# Altium integrated library Linear Technology PMIC-Switching Reg LTC1174-LTC3901.IntLib: 2647 symbols (part 247 of 310)
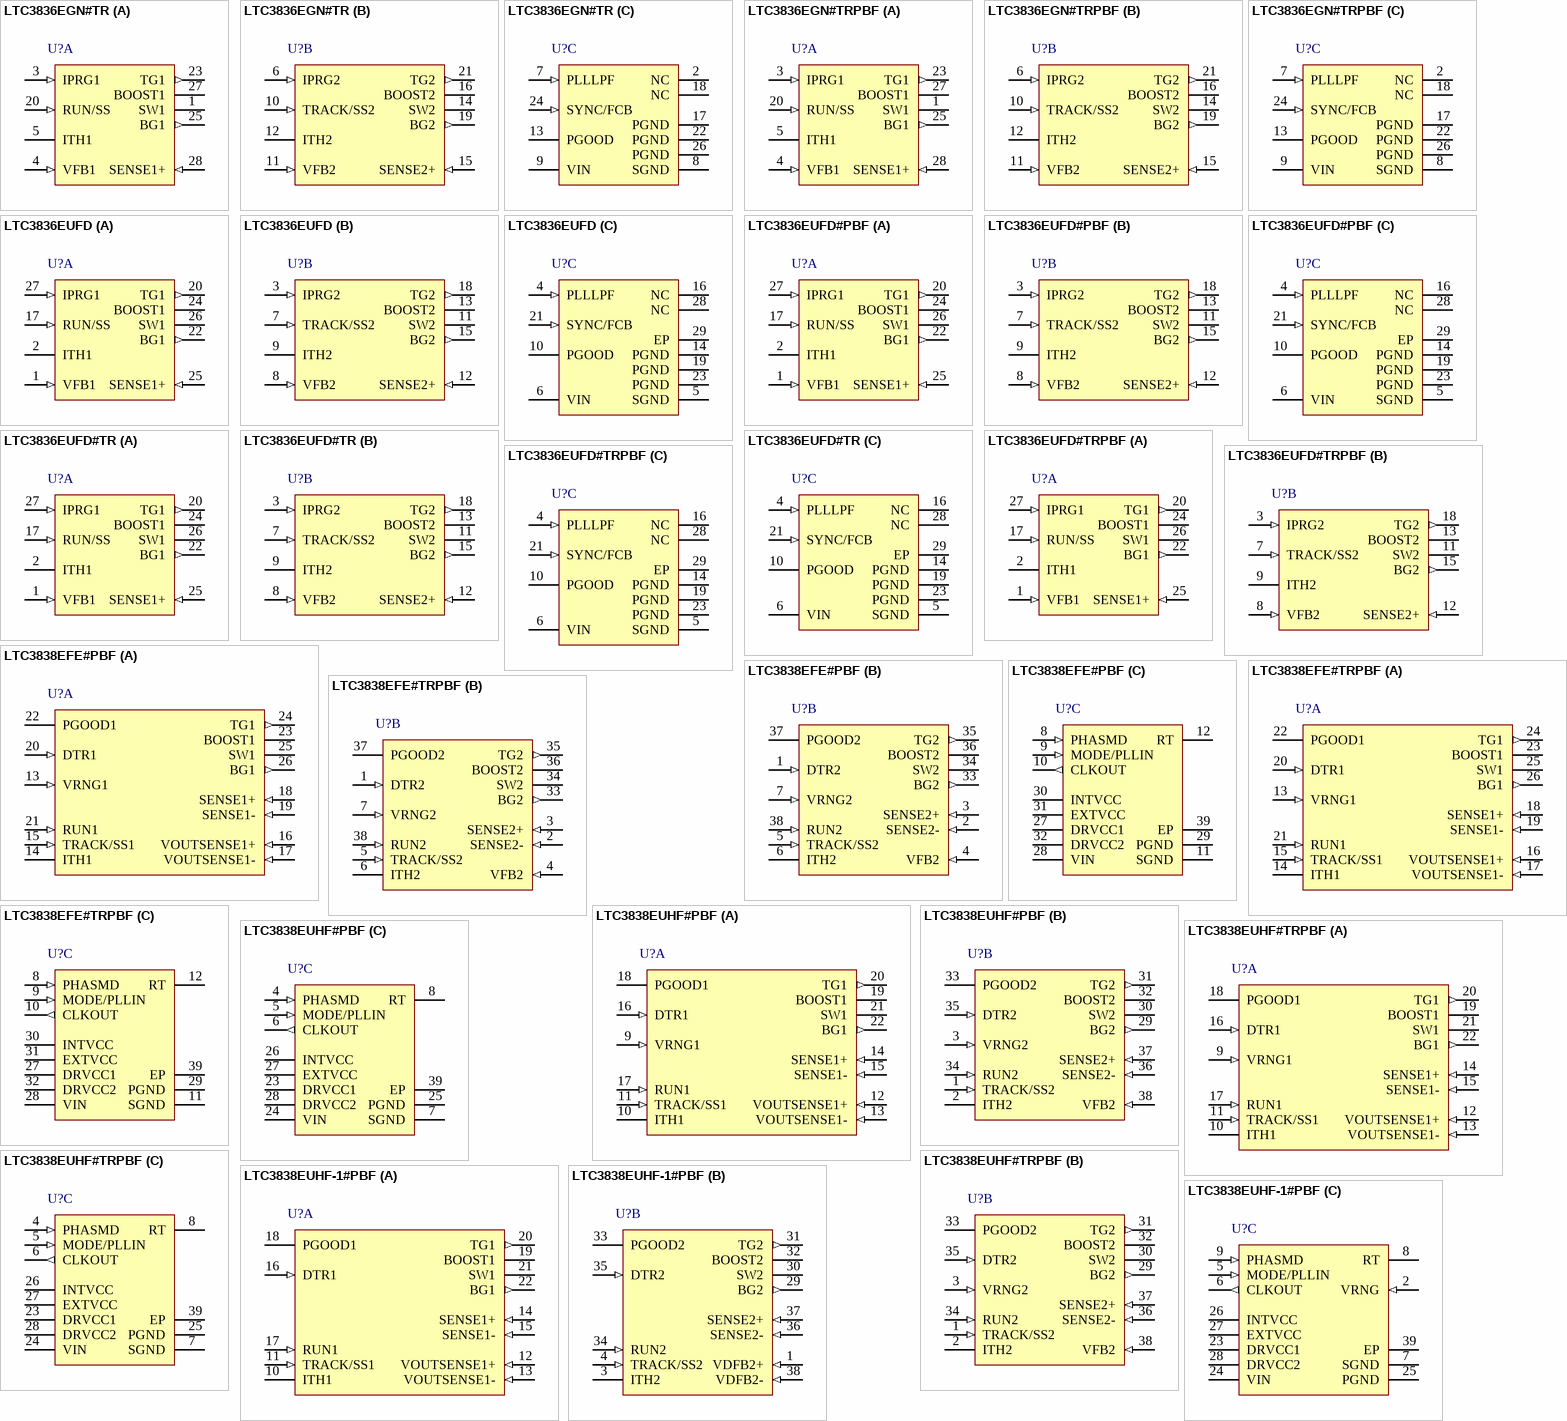
[diagram p262: symbols LTC3836EGN#TR to LTC3838EUHF-1#PBF]

## LTC3836EGN#TR
designator U?
Dual 2-Phase Synchronous Controller, 2.75 to 4.5 V Vin, 28-pin SOP (GN-28), -40 to 85 degC, Tape and Reel; Manufacturer: Linear Technology; PartNumber: LTC3836EGN#TR; Number of Outputs: 2; PackageReference: GN-28; PackageDescription: 28-Pin Plastic SSOP, Body 9.9 x 3.9 mm, Pitch 0.635 mm; RoHS: FALSE
footprint LT-GN-28_N (SOP, 28-Leads, Body 9.98x3.98mm, Pitch 0.635mm, IPC Medium Density)
footprint LT-GN-28_L (SOP, 28-Leads, Body 9.98x3.98mm, Pitch 0.635mm, IPC High Density)
footprint LT-GN-28_M (SOP, 28-Leads, Body 9.98x3.98mm, Pitch 0.635mm, IPC Low Density)
part A pins: 1 SW1 "Switch Node Connection to Inductor and External MOSFETs. Also the negative input to differential peak current comparator and an input to the reverse current comparator. Normally connected to the source of the main MOSFET, (See Datasheet)", 3 IPRG1 (in) "Three-State Pins to Select Maximum Peak Sense Voltage Threshold. These pins select the maximum allowed voltage drop between the SENSE+ and SW pins (i.e., the maximum allowed drop across the external main MOSFET) for each (See Datasheet)", 4 VFB1 (in) "Feedback Pins. Receives the remotely sensed feedback voltage for its controller from an external resistor divider across the output.", 5 ITH1 "Current Threshold and Error Amplifier Compensation Point. Nominal operating range on these pins is from 0.7V to 2V. The voltage on these pins determines the threshold of the main current comparator.", 20 RUN/SS (in) "Run Control Input and Optional External Soft-Start Input. Forcing this pin below 0.65V shuts down the chip (both channels). Driving this pin to VIN or releasing this pin enables the chip, using the chip’s interna(See Datasheet)", 23 TG1 (out) "Top Gate Drive Output. These pins drive the gates of the external topside MOSFETs. These pins have an output swing from PGND to BOOST.", 25 BG1 (out) "Bottom Gate Drive Output. These pins drive the gates of the external synchronous MOSFETs. These pins have an output swing from PGND to BOOST.", 27 BOOST1 "Positive Supply Pin for the Gate Driver Circuitry. A bootstrapped capacitor, charged with an external Schottky diode and a boost voltage source, is connected between the BOOST and SW pins. Voltage swing at the BOOST pins is (See Datasheet)", 28 SENSE1+ (in) "Positive Input to Differential Current Comparator. Also powers the gate drivers. Normally connected to the drain of the main external MOSFET."
part B pins: 6 IPRG2 (in) "Three-State Pins to Select Maximum Peak Sense Voltage Threshold. These pins select the maximum allowed voltage drop between the SENSE+ and SW pins (i.e., the maximum allowed drop across the external main MOSFET) for each (See Datasheet)", 10 TRACK/SS2 (in) "Channel 2 Tracking and Soft-Start Input. The LTC3836 regulates the VFB2 voltage to the smaller of 0.6V or the voltage on the TRACK/SS2 pin. An internal 1.5uA pull-up current source is connected to this pin. A capacitor to (See Datasheet)", 11 VFB2 (in) "Feedback Pins. Receives the remotely sensed feedback voltage for its controller from an external resistor divider across the output.", 12 ITH2 "Current Threshold and Error Amplifier Compensation Point. Nominal operating range on these pins is from 0.7V to 2V. The voltage on these pins determines the threshold of the main current comparator.", 14 SW2 "Switch Node Connection to Inductor and External MOSFETs. Also the negative input to differential peak current comparator and an input to the reverse current comparator. Normally connected to the source of the main MOSFET, (See Datasheet)", 15 SENSE2+ (in) "Positive Input to Differential Current Comparator. Also powers the gate drivers. Normally connected to the drain of the main external MOSFET.", 16 BOOST2 "Positive Supply Pin for the Gate Driver Circuitry. A bootstrapped capacitor, charged with an external Schottky diode and a boost voltage source, is connected between the BOOST and SW pins. Voltage swing at the BOOST pins is (See Datasheet)", 19 BG2 (out) "Bottom Gate Drive Output. These pins drive the gates of the external synchronous MOSFETs. These pins have an output swing from PGND to BOOST.", 21 TG2 (out) "Top Gate Drive Output. These pins drive the gates of the external topside MOSFETs. These pins have an output swing from PGND to BOOST."
part C pins: 2 NC "No Connection.", 7 PLLLPF (in) "Frequency Set/PLL Lowpass Filter. When synchronizing to an external clock, this pin serves as the lowpass filter point for the phase-locked loop. Normally a series RC is connected between this pin and ground. When not (See Datasheet)", 8 SGND (power) "Small-Signal Ground. This pin serves as the ground connection for most internal circuits.", 9 VIN (power) "Small-Signal Power Supply. This pin powers the entire chip except for the gate drivers. Externally filtering this pin with a lowpass RC network (e.g., R = 10ohm, C = 1uF) is suggested to minimize noise pickup, especially in (See Datasheet)", 13 PGOOD (oc) "Power-Good Output Voltage Monitor Open-Drain Logic Output. This pin is pulled to ground when the voltage on either feedback pin (VFB1,VFB2) is not within +/-13.3% of its nominal set point.", 17 PGND (power) "Power Ground. These pins serve as the ground connection for the gate drivers and the negative input to the reverse current comparators. The Exposed Pad must be soldered to PCB ground.", 18 NC "No Connection.", 22 PGND (power) "Power Ground. These pins serve as the ground connection for the gate drivers and the negative input to the reverse current comparators. The Exposed Pad must be soldered to PCB ground.", 24 SYNC/FCB (in) "This pin performs two functions: 1) external clock synchronization input for phase-locked loop, and 2) pulse-skipping operation or forced continuous mode select. To synchronize with an external clock using the PLL, apply a (See Datasheet)", 26 PGND (power) "Power Ground. These pins serve as the ground connection for the gate drivers and the negative input to the reverse current comparators. The Exposed Pad must be soldered to PCB ground."

## LTC3836EGN#TRPBF
designator U?
Dual 2-Phase Synchronous Controller, 2.75 to 4.5 V Vin, 28-pin SOP (GN-28), -40 to 85 degC, Pb-Free, Tape and Reel; Manufacturer: Linear Technology; PartNumber: LTC3836EGN#TRPBF; Number of Outputs: 2; PackageReference: GN-28; PackageDescription: 28-Pin Plastic SSOP, Body 9.9 x 3.9 mm, Pitch 0.635 mm; Supplier 1: Digi-Key; Supplier Part Number 1: LTC3836EGN#TRPBF-ND; RoHS: TRUE
footprint LT-GN-28_N (SOP, 28-Leads, Body 9.98x3.98mm, Pitch 0.635mm, IPC Medium Density)
footprint LT-GN-28_L (SOP, 28-Leads, Body 9.98x3.98mm, Pitch 0.635mm, IPC High Density)
footprint LT-GN-28_M (SOP, 28-Leads, Body 9.98x3.98mm, Pitch 0.635mm, IPC Low Density)
part A pins: 1 SW1 "Switch Node Connection to Inductor and External MOSFETs. Also the negative input to differential peak current comparator and an input to the reverse current comparator. Normally connected to the source of the main MOSFET, (See Datasheet)", 3 IPRG1 (in) "Three-State Pins to Select Maximum Peak Sense Voltage Threshold. These pins select the maximum allowed voltage drop between the SENSE+ and SW pins (i.e., the maximum allowed drop across the external main MOSFET) for each (See Datasheet)", 4 VFB1 (in) "Feedback Pins. Receives the remotely sensed feedback voltage for its controller from an external resistor divider across the output.", 5 ITH1 "Current Threshold and Error Amplifier Compensation Point. Nominal operating range on these pins is from 0.7V to 2V. The voltage on these pins determines the threshold of the main current comparator.", 20 RUN/SS (in) "Run Control Input and Optional External Soft-Start Input. Forcing this pin below 0.65V shuts down the chip (both channels). Driving this pin to VIN or releasing this pin enables the chip, using the chip’s interna(See Datasheet)", 23 TG1 (out) "Top Gate Drive Output. These pins drive the gates of the external topside MOSFETs. These pins have an output swing from PGND to BOOST.", 25 BG1 (out) "Bottom Gate Drive Output. These pins drive the gates of the external synchronous MOSFETs. These pins have an output swing from PGND to BOOST.", 27 BOOST1 "Positive Supply Pin for the Gate Driver Circuitry. A bootstrapped capacitor, charged with an external Schottky diode and a boost voltage source, is connected between the BOOST and SW pins. Voltage swing at the BOOST pins is (See Datasheet)", 28 SENSE1+ (in) "Positive Input to Differential Current Comparator. Also powers the gate drivers. Normally connected to the drain of the main external MOSFET."
part B pins: 6 IPRG2 (in) "Three-State Pins to Select Maximum Peak Sense Voltage Threshold. These pins select the maximum allowed voltage drop between the SENSE+ and SW pins (i.e., the maximum allowed drop across the external main MOSFET) for each (See Datasheet)", 10 TRACK/SS2 (in) "Channel 2 Tracking and Soft-Start Input. The LTC3836 regulates the VFB2 voltage to the smaller of 0.6V or the voltage on the TRACK/SS2 pin. An internal 1.5uA pull-up current source is connected to this pin. A capacitor to (See Datasheet)", 11 VFB2 (in) "Feedback Pins. Receives the remotely sensed feedback voltage for its controller from an external resistor divider across the output.", 12 ITH2 "Current Threshold and Error Amplifier Compensation Point. Nominal operating range on these pins is from 0.7V to 2V. The voltage on these pins determines the threshold of the main current comparator.", 14 SW2 "Switch Node Connection to Inductor and External MOSFETs. Also the negative input to differential peak current comparator and an input to the reverse current comparator. Normally connected to the source of the main MOSFET, (See Datasheet)", 15 SENSE2+ (in) "Positive Input to Differential Current Comparator. Also powers the gate drivers. Normally connected to the drain of the main external MOSFET.", 16 BOOST2 "Positive Supply Pin for the Gate Driver Circuitry. A bootstrapped capacitor, charged with an external Schottky diode and a boost voltage source, is connected between the BOOST and SW pins. Voltage swing at the BOOST pins is (See Datasheet)", 19 BG2 (out) "Bottom Gate Drive Output. These pins drive the gates of the external synchronous MOSFETs. These pins have an output swing from PGND to BOOST.", 21 TG2 (out) "Top Gate Drive Output. These pins drive the gates of the external topside MOSFETs. These pins have an output swing from PGND to BOOST."
part C pins: 2 NC "No Connection.", 7 PLLLPF (in) "Frequency Set/PLL Lowpass Filter. When synchronizing to an external clock, this pin serves as the lowpass filter point for the phase-locked loop. Normally a series RC is connected between this pin and ground. When not (See Datasheet)", 8 SGND (power) "Small-Signal Ground. This pin serves as the ground connection for most internal circuits.", 9 VIN (power) "Small-Signal Power Supply. This pin powers the entire chip except for the gate drivers. Externally filtering this pin with a lowpass RC network (e.g., R = 10ohm, C = 1uF) is suggested to minimize noise pickup, especially in (See Datasheet)", 13 PGOOD (oc) "Power-Good Output Voltage Monitor Open-Drain Logic Output. This pin is pulled to ground when the voltage on either feedback pin (VFB1,VFB2) is not within +/-13.3% of its nominal set point.", 17 PGND (power) "Power Ground. These pins serve as the ground connection for the gate drivers and the negative input to the reverse current comparators. The Exposed Pad must be soldered to PCB ground.", 18 NC "No Connection.", 22 PGND (power) "Power Ground. These pins serve as the ground connection for the gate drivers and the negative input to the reverse current comparators. The Exposed Pad must be soldered to PCB ground.", 24 SYNC/FCB (in) "This pin performs two functions: 1) external clock synchronization input for phase-locked loop, and 2) pulse-skipping operation or forced continuous mode select. To synchronize with an external clock using the PLL, apply a (See Datasheet)", 26 PGND (power) "Power Ground. These pins serve as the ground connection for the gate drivers and the negative input to the reverse current comparators. The Exposed Pad must be soldered to PCB ground."

## LTC3836EUFD
designator U?
Dual 2-Phase Synchronous Controller, 2.75 to 4.5 V Vin, 28-pin QFN (UFD-28), -40 to 85 degC; Manufacturer: Linear Technology; PartNumber: LTC3836EUFD; Number of Outputs: 2; PackageReference: UFD-28; PackageDescription: 28-Pin Plastic QFN, Body 5 x 4 mm, Pitch 0.5 mm; RoHS: FALSE; Code_JEDEC: MO-220
footprint LT-UFD-28_N (QFN, 28-Leads, Body 5.1x4.1mm, Pitch 0.5mm, Thermal Pad 3.65x2.65mm, IPC Medium Density)
footprint LT-UFD-28_L (QFN, 28-Leads, Body 5.1x4.1mm, Pitch 0.5mm, Thermal Pad 3.65x2.65mm, IPC High Density)
footprint LT-UFD-28_M (QFN, 28-Leads, Body 5.1x4.1mm, Pitch 0.5mm, Thermal Pad 3.65x2.65mm, IPC Low Density)
part A pins: 1 VFB1 (in) "Feedback Pins. Receives the remotely sensed feedback voltage for its controller from an external resistor divider across the output.", 2 ITH1 "Current Threshold and Error Amplifier Compensation Point. Nominal operating range on these pins is from 0.7V to 2V. The voltage on these pins determines the threshold of the main current comparator.", 17 RUN/SS (in) "Run Control Input and Optional External Soft-Start Input. Forcing this pin below 0.65V shuts down the chip (both channels). Driving this pin to VIN or releasing this pin enables the chip, using the chip’s interna(See Datasheet)", 20 TG1 (out) "Top Gate Drive Output. These pins drive the gates of the external topside MOSFETs. These pins have an output swing from PGND to BOOST.", 22 BG1 (out) "Bottom Gate Drive Output. These pins drive the gates of the external synchronous MOSFETs. These pins have an output swing from PGND to BOOST.", 24 BOOST1 "Positive Supply Pin for the Gate Driver Circuitry. A bootstrapped capacitor, charged with an external Schottky diode and a boost voltage source, is connected between the BOOST and SW pins. Voltage swing at the BOOST pins is (See Datasheet)", 25 SENSE1+ (in) "Positive Input to Differential Current Comparator. Also powers the gate drivers. Normally connected to the drain of the main external MOSFET.", 26 SW1 "Switch Node Connection to Inductor and External MOSFETs. Also the negative input to differential peak current comparator and an input to the reverse current comparator. Normally connected to the source of the main MOSFET, (See Datasheet)", 27 IPRG1 (in) "Three-State Pins to Select Maximum Peak Sense Voltage Threshold. These pins select the maximum allowed voltage drop between the SENSE+ and SW pins (i.e., the maximum allowed drop across the external main MOSFET) for each (See Datasheet)"
part B pins: 3 IPRG2 (in) "Three-State Pins to Select Maximum Peak Sense Voltage Threshold. These pins select the maximum allowed voltage drop between the SENSE+ and SW pins (i.e., the maximum allowed drop across the external main MOSFET) for each (See Datasheet)", 7 TRACK/SS2 (in) "Channel 2 Tracking and Soft-Start Input. The LTC3836 regulates the VFB2 voltage to the smaller of 0.6V or the voltage on the TRACK/SS2 pin. An internal 1.5uA pull-up current source is connected to this pin. A capacitor to (See Datasheet)", 8 VFB2 (in) "Feedback Pins. Receives the remotely sensed feedback voltage for its controller from an external resistor divider across the output.", 9 ITH2 "Current Threshold and Error Amplifier Compensation Point. Nominal operating range on these pins is from 0.7V to 2V. The voltage on these pins determines the threshold of the main current comparator.", 11 SW2 "Switch Node Connection to Inductor and External MOSFETs. Also the negative input to differential peak current comparator and an input to the reverse current comparator. Normally connected to the source of the main MOSFET, (See Datasheet)", 12 SENSE2+ (in) "Positive Input to Differential Current Comparator. Also powers the gate drivers. Normally connected to the drain of the main external MOSFET.", 13 BOOST2 "Positive Supply Pin for the Gate Driver Circuitry. A bootstrapped capacitor, charged with an external Schottky diode and a boost voltage source, is connected between the BOOST and SW pins. Voltage swing at the BOOST pins is (See Datasheet)", 15 BG2 (out) "Bottom Gate Drive Output. These pins drive the gates of the external synchronous MOSFETs. These pins have an output swing from PGND to BOOST.", 18 TG2 (out) "Top Gate Drive Output. These pins drive the gates of the external topside MOSFETs. These pins have an output swing from PGND to BOOST."
part C pins: 4 PLLLPF (in) "Frequency Set/PLL Lowpass Filter. When synchronizing to an external clock, this pin serves as the lowpass filter point for the phase-locked loop. Normally a series RC is connected between this pin and ground. When not (See Datasheet)", 5 SGND (power) "Small-Signal Ground. This pin serves as the ground connection for most internal circuits.", 6 VIN (power) "Small-Signal Power Supply. This pin powers the entire chip except for the gate drivers. Externally filtering this pin with a lowpass RC network (e.g., R = 10ohm, C = 1uF) is suggested to minimize noise pickup, especially in (See Datasheet)", 10 PGOOD (oc) "Power-Good Output Voltage Monitor Open-Drain Logic Output. This pin is pulled to ground when the voltage on either feedback pin (VFB1,VFB2) is not within +/-13.3% of its nominal set point.", 14 PGND (power) "Power Ground. These pins serve as the ground connection for the gate drivers and the negative input to the reverse current comparators. The Exposed Pad must be soldered to PCB ground.", 16 NC "No Connection.", 19 PGND (power) "Power Ground. These pins serve as the ground connection for the gate drivers and the negative input to the reverse current comparators. The Exposed Pad must be soldered to PCB ground.", 21 SYNC/FCB (in) "This pin performs two functions: 1) external clock synchronization input for phase-locked loop, and 2) pulse-skipping operation or forced continuous mode select. To synchronize with an external clock using the PLL, apply a (See Datasheet)", 23 PGND (power) "Power Ground. These pins serve as the ground connection for the gate drivers and the negative input to the reverse current comparators. The Exposed Pad must be soldered to PCB ground.", 28 NC "No Connection.", 29 EP (power) "Must be soldered to PCB ground."

## LTC3836EUFD#PBF
designator U?
Dual 2-Phase Synchronous Controller, 2.75 to 4.5 V Vin, 28-pin QFN (UFD-28), -40 to 85 degC, Pb-Free; Manufacturer: Linear Technology; PartNumber: LTC3836EUFD#PBF; Number of Outputs: 2; PackageReference: UFD-28; PackageDescription: 28-Pin Plastic QFN, Body 5 x 4 mm, Pitch 0.5 mm; Supplier 1: Digi-Key; Supplier Part Number 1: LTC3836EUFD#PBF-ND; RoHS: TRUE; Code_JEDEC: MO-220
footprint LT-UFD-28_N (QFN, 28-Leads, Body 5.1x4.1mm, Pitch 0.5mm, Thermal Pad 3.65x2.65mm, IPC Medium Density)
footprint LT-UFD-28_L (QFN, 28-Leads, Body 5.1x4.1mm, Pitch 0.5mm, Thermal Pad 3.65x2.65mm, IPC High Density)
footprint LT-UFD-28_M (QFN, 28-Leads, Body 5.1x4.1mm, Pitch 0.5mm, Thermal Pad 3.65x2.65mm, IPC Low Density)
part A pins: 1 VFB1 (in) "Feedback Pins. Receives the remotely sensed feedback voltage for its controller from an external resistor divider across the output.", 2 ITH1 "Current Threshold and Error Amplifier Compensation Point. Nominal operating range on these pins is from 0.7V to 2V. The voltage on these pins determines the threshold of the main current comparator.", 17 RUN/SS (in) "Run Control Input and Optional External Soft-Start Input. Forcing this pin below 0.65V shuts down the chip (both channels). Driving this pin to VIN or releasing this pin enables the chip, using the chip’s interna(See Datasheet)", 20 TG1 (out) "Top Gate Drive Output. These pins drive the gates of the external topside MOSFETs. These pins have an output swing from PGND to BOOST.", 22 BG1 (out) "Bottom Gate Drive Output. These pins drive the gates of the external synchronous MOSFETs. These pins have an output swing from PGND to BOOST.", 24 BOOST1 "Positive Supply Pin for the Gate Driver Circuitry. A bootstrapped capacitor, charged with an external Schottky diode and a boost voltage source, is connected between the BOOST and SW pins. Voltage swing at the BOOST pins is (See Datasheet)", 25 SENSE1+ (in) "Positive Input to Differential Current Comparator. Also powers the gate drivers. Normally connected to the drain of the main external MOSFET.", 26 SW1 "Switch Node Connection to Inductor and External MOSFETs. Also the negative input to differential peak current comparator and an input to the reverse current comparator. Normally connected to the source of the main MOSFET, (See Datasheet)", 27 IPRG1 (in) "Three-State Pins to Select Maximum Peak Sense Voltage Threshold. These pins select the maximum allowed voltage drop between the SENSE+ and SW pins (i.e., the maximum allowed drop across the external main MOSFET) for each (See Datasheet)"
part B pins: 3 IPRG2 (in) "Three-State Pins to Select Maximum Peak Sense Voltage Threshold. These pins select the maximum allowed voltage drop between the SENSE+ and SW pins (i.e., the maximum allowed drop across the external main MOSFET) for each (See Datasheet)", 7 TRACK/SS2 (in) "Channel 2 Tracking and Soft-Start Input. The LTC3836 regulates the VFB2 voltage to the smaller of 0.6V or the voltage on the TRACK/SS2 pin. An internal 1.5uA pull-up current source is connected to this pin. A capacitor to (See Datasheet)", 8 VFB2 (in) "Feedback Pins. Receives the remotely sensed feedback voltage for its controller from an external resistor divider across the output.", 9 ITH2 "Current Threshold and Error Amplifier Compensation Point. Nominal operating range on these pins is from 0.7V to 2V. The voltage on these pins determines the threshold of the main current comparator.", 11 SW2 "Switch Node Connection to Inductor and External MOSFETs. Also the negative input to differential peak current comparator and an input to the reverse current comparator. Normally connected to the source of the main MOSFET, (See Datasheet)", 12 SENSE2+ (in) "Positive Input to Differential Current Comparator. Also powers the gate drivers. Normally connected to the drain of the main external MOSFET.", 13 BOOST2 "Positive Supply Pin for the Gate Driver Circuitry. A bootstrapped capacitor, charged with an external Schottky diode and a boost voltage source, is connected between the BOOST and SW pins. Voltage swing at the BOOST pins is (See Datasheet)", 15 BG2 (out) "Bottom Gate Drive Output. These pins drive the gates of the external synchronous MOSFETs. These pins have an output swing from PGND to BOOST.", 18 TG2 (out) "Top Gate Drive Output. These pins drive the gates of the external topside MOSFETs. These pins have an output swing from PGND to BOOST."
part C pins: 4 PLLLPF (in) "Frequency Set/PLL Lowpass Filter. When synchronizing to an external clock, this pin serves as the lowpass filter point for the phase-locked loop. Normally a series RC is connected between this pin and ground. When not (See Datasheet)", 5 SGND (power) "Small-Signal Ground. This pin serves as the ground connection for most internal circuits.", 6 VIN (power) "Small-Signal Power Supply. This pin powers the entire chip except for the gate drivers. Externally filtering this pin with a lowpass RC network (e.g., R = 10ohm, C = 1uF) is suggested to minimize noise pickup, especially in (See Datasheet)", 10 PGOOD (oc) "Power-Good Output Voltage Monitor Open-Drain Logic Output. This pin is pulled to ground when the voltage on either feedback pin (VFB1,VFB2) is not within +/-13.3% of its nominal set point.", 14 PGND (power) "Power Ground. These pins serve as the ground connection for the gate drivers and the negative input to the reverse current comparators. The Exposed Pad must be soldered to PCB ground.", 16 NC "No Connection.", 19 PGND (power) "Power Ground. These pins serve as the ground connection for the gate drivers and the negative input to the reverse current comparators. The Exposed Pad must be soldered to PCB ground.", 21 SYNC/FCB (in) "This pin performs two functions: 1) external clock synchronization input for phase-locked loop, and 2) pulse-skipping operation or forced continuous mode select. To synchronize with an external clock using the PLL, apply a (See Datasheet)", 23 PGND (power) "Power Ground. These pins serve as the ground connection for the gate drivers and the negative input to the reverse current comparators. The Exposed Pad must be soldered to PCB ground.", 28 NC "No Connection.", 29 EP (power) "Must be soldered to PCB ground."

## LTC3836EUFD#TR
designator U?
Dual 2-Phase Synchronous Controller, 2.75 to 4.5 V Vin, 28-pin QFN (UFD-28), -40 to 85 degC, Tape and Reel; Manufacturer: Linear Technology; PartNumber: LTC3836EUFD#TR; Number of Outputs: 2; PackageReference: UFD-28; PackageDescription: 28-Pin Plastic QFN, Body 5 x 4 mm, Pitch 0.5 mm; RoHS: FALSE; Code_JEDEC: MO-220
footprint LT-UFD-28_N (QFN, 28-Leads, Body 5.1x4.1mm, Pitch 0.5mm, Thermal Pad 3.65x2.65mm, IPC Medium Density)
footprint LT-UFD-28_L (QFN, 28-Leads, Body 5.1x4.1mm, Pitch 0.5mm, Thermal Pad 3.65x2.65mm, IPC High Density)
footprint LT-UFD-28_M (QFN, 28-Leads, Body 5.1x4.1mm, Pitch 0.5mm, Thermal Pad 3.65x2.65mm, IPC Low Density)
part A pins: 1 VFB1 (in) "Feedback Pins. Receives the remotely sensed feedback voltage for its controller from an external resistor divider across the output.", 2 ITH1 "Current Threshold and Error Amplifier Compensation Point. Nominal operating range on these pins is from 0.7V to 2V. The voltage on these pins determines the threshold of the main current comparator.", 17 RUN/SS (in) "Run Control Input and Optional External Soft-Start Input. Forcing this pin below 0.65V shuts down the chip (both channels). Driving this pin to VIN or releasing this pin enables the chip, using the chip’s interna(See Datasheet)", 20 TG1 (out) "Top Gate Drive Output. These pins drive the gates of the external topside MOSFETs. These pins have an output swing from PGND to BOOST.", 22 BG1 (out) "Bottom Gate Drive Output. These pins drive the gates of the external synchronous MOSFETs. These pins have an output swing from PGND to BOOST.", 24 BOOST1 "Positive Supply Pin for the Gate Driver Circuitry. A bootstrapped capacitor, charged with an external Schottky diode and a boost voltage source, is connected between the BOOST and SW pins. Voltage swing at the BOOST pins is (See Datasheet)", 25 SENSE1+ (in) "Positive Input to Differential Current Comparator. Also powers the gate drivers. Normally connected to the drain of the main external MOSFET.", 26 SW1 "Switch Node Connection to Inductor and External MOSFETs. Also the negative input to differential peak current comparator and an input to the reverse current comparator. Normally connected to the source of the main MOSFET, (See Datasheet)", 27 IPRG1 (in) "Three-State Pins to Select Maximum Peak Sense Voltage Threshold. These pins select the maximum allowed voltage drop between the SENSE+ and SW pins (i.e., the maximum allowed drop across the external main MOSFET) for each (See Datasheet)"
part B pins: 3 IPRG2 (in) "Three-State Pins to Select Maximum Peak Sense Voltage Threshold. These pins select the maximum allowed voltage drop between the SENSE+ and SW pins (i.e., the maximum allowed drop across the external main MOSFET) for each (See Datasheet)", 7 TRACK/SS2 (in) "Channel 2 Tracking and Soft-Start Input. The LTC3836 regulates the VFB2 voltage to the smaller of 0.6V or the voltage on the TRACK/SS2 pin. An internal 1.5uA pull-up current source is connected to this pin. A capacitor to (See Datasheet)", 8 VFB2 (in) "Feedback Pins. Receives the remotely sensed feedback voltage for its controller from an external resistor divider across the output.", 9 ITH2 "Current Threshold and Error Amplifier Compensation Point. Nominal operating range on these pins is from 0.7V to 2V. The voltage on these pins determines the threshold of the main current comparator.", 11 SW2 "Switch Node Connection to Inductor and External MOSFETs. Also the negative input to differential peak current comparator and an input to the reverse current comparator. Normally connected to the source of the main MOSFET, (See Datasheet)", 12 SENSE2+ (in) "Positive Input to Differential Current Comparator. Also powers the gate drivers. Normally connected to the drain of the main external MOSFET.", 13 BOOST2 "Positive Supply Pin for the Gate Driver Circuitry. A bootstrapped capacitor, charged with an external Schottky diode and a boost voltage source, is connected between the BOOST and SW pins. Voltage swing at the BOOST pins is (See Datasheet)", 15 BG2 (out) "Bottom Gate Drive Output. These pins drive the gates of the external synchronous MOSFETs. These pins have an output swing from PGND to BOOST.", 18 TG2 (out) "Top Gate Drive Output. These pins drive the gates of the external topside MOSFETs. These pins have an output swing from PGND to BOOST."
part C pins: 4 PLLLPF (in) "Frequency Set/PLL Lowpass Filter. When synchronizing to an external clock, this pin serves as the lowpass filter point for the phase-locked loop. Normally a series RC is connected between this pin and ground. When not (See Datasheet)", 5 SGND (power) "Small-Signal Ground. This pin serves as the ground connection for most internal circuits.", 6 VIN (power) "Small-Signal Power Supply. This pin powers the entire chip except for the gate drivers. Externally filtering this pin with a lowpass RC network (e.g., R = 10ohm, C = 1uF) is suggested to minimize noise pickup, especially in (See Datasheet)", 10 PGOOD (oc) "Power-Good Output Voltage Monitor Open-Drain Logic Output. This pin is pulled to ground when the voltage on either feedback pin (VFB1,VFB2) is not within +/-13.3% of its nominal set point.", 14 PGND (power) "Power Ground. These pins serve as the ground connection for the gate drivers and the negative input to the reverse current comparators. The Exposed Pad must be soldered to PCB ground.", 16 NC "No Connection.", 19 PGND (power) "Power Ground. These pins serve as the ground connection for the gate drivers and the negative input to the reverse current comparators. The Exposed Pad must be soldered to PCB ground.", 21 SYNC/FCB (in) "This pin performs two functions: 1) external clock synchronization input for phase-locked loop, and 2) pulse-skipping operation or forced continuous mode select. To synchronize with an external clock using the PLL, apply a (See Datasheet)", 23 PGND (power) "Power Ground. These pins serve as the ground connection for the gate drivers and the negative input to the reverse current comparators. The Exposed Pad must be soldered to PCB ground.", 28 NC "No Connection.", 29 EP (power) "Must be soldered to PCB ground."

## LTC3836EUFD#TRPBF
designator U?
Dual 2-Phase Synchronous Controller, 2.75 to 4.5 V Vin, 28-pin QFN (UFD-28), -40 to 85 degC, Pb-Free, Tape and Reel; Manufacturer: Linear Technology; PartNumber: LTC3836EUFD#TRPBF; Number of Outputs: 2; PackageReference: UFD-28; PackageDescription: 28-Pin Plastic QFN, Body 5 x 4 mm, Pitch 0.5 mm; Supplier 1: Digi-Key; Supplier Part Number 1: LTC3836EUFD#TRPBF-ND; RoHS: TRUE; Code_JEDEC: MO-220
footprint LT-UFD-28_N (QFN, 28-Leads, Body 5.1x4.1mm, Pitch 0.5mm, Thermal Pad 3.65x2.65mm, IPC Medium Density)
footprint LT-UFD-28_L (QFN, 28-Leads, Body 5.1x4.1mm, Pitch 0.5mm, Thermal Pad 3.65x2.65mm, IPC High Density)
footprint LT-UFD-28_M (QFN, 28-Leads, Body 5.1x4.1mm, Pitch 0.5mm, Thermal Pad 3.65x2.65mm, IPC Low Density)
part A pins: 1 VFB1 (in) "Feedback Pins. Receives the remotely sensed feedback voltage for its controller from an external resistor divider across the output.", 2 ITH1 "Current Threshold and Error Amplifier Compensation Point. Nominal operating range on these pins is from 0.7V to 2V. The voltage on these pins determines the threshold of the main current comparator.", 17 RUN/SS (in) "Run Control Input and Optional External Soft-Start Input. Forcing this pin below 0.65V shuts down the chip (both channels). Driving this pin to VIN or releasing this pin enables the chip, using the chip’s interna(See Datasheet)", 20 TG1 (out) "Top Gate Drive Output. These pins drive the gates of the external topside MOSFETs. These pins have an output swing from PGND to BOOST.", 22 BG1 (out) "Bottom Gate Drive Output. These pins drive the gates of the external synchronous MOSFETs. These pins have an output swing from PGND to BOOST.", 24 BOOST1 "Positive Supply Pin for the Gate Driver Circuitry. A bootstrapped capacitor, charged with an external Schottky diode and a boost voltage source, is connected between the BOOST and SW pins. Voltage swing at the BOOST pins is (See Datasheet)", 25 SENSE1+ (in) "Positive Input to Differential Current Comparator. Also powers the gate drivers. Normally connected to the drain of the main external MOSFET.", 26 SW1 "Switch Node Connection to Inductor and External MOSFETs. Also the negative input to differential peak current comparator and an input to the reverse current comparator. Normally connected to the source of the main MOSFET, (See Datasheet)", 27 IPRG1 (in) "Three-State Pins to Select Maximum Peak Sense Voltage Threshold. These pins select the maximum allowed voltage drop between the SENSE+ and SW pins (i.e., the maximum allowed drop across the external main MOSFET) for each (See Datasheet)"
part B pins: 3 IPRG2 (in) "Three-State Pins to Select Maximum Peak Sense Voltage Threshold. These pins select the maximum allowed voltage drop between the SENSE+ and SW pins (i.e., the maximum allowed drop across the external main MOSFET) for each (See Datasheet)", 7 TRACK/SS2 (in) "Channel 2 Tracking and Soft-Start Input. The LTC3836 regulates the VFB2 voltage to the smaller of 0.6V or the voltage on the TRACK/SS2 pin. An internal 1.5uA pull-up current source is connected to this pin. A capacitor to (See Datasheet)", 8 VFB2 (in) "Feedback Pins. Receives the remotely sensed feedback voltage for its controller from an external resistor divider across the output.", 9 ITH2 "Current Threshold and Error Amplifier Compensation Point. Nominal operating range on these pins is from 0.7V to 2V. The voltage on these pins determines the threshold of the main current comparator.", 11 SW2 "Switch Node Connection to Inductor and External MOSFETs. Also the negative input to differential peak current comparator and an input to the reverse current comparator. Normally connected to the source of the main MOSFET, (See Datasheet)", 12 SENSE2+ (in) "Positive Input to Differential Current Comparator. Also powers the gate drivers. Normally connected to the drain of the main external MOSFET.", 13 BOOST2 "Positive Supply Pin for the Gate Driver Circuitry. A bootstrapped capacitor, charged with an external Schottky diode and a boost voltage source, is connected between the BOOST and SW pins. Voltage swing at the BOOST pins is (See Datasheet)", 15 BG2 (out) "Bottom Gate Drive Output. These pins drive the gates of the external synchronous MOSFETs. These pins have an output swing from PGND to BOOST.", 18 TG2 (out) "Top Gate Drive Output. These pins drive the gates of the external topside MOSFETs. These pins have an output swing from PGND to BOOST."
part C pins: 4 PLLLPF (in) "Frequency Set/PLL Lowpass Filter. When synchronizing to an external clock, this pin serves as the lowpass filter point for the phase-locked loop. Normally a series RC is connected between this pin and ground. When not (See Datasheet)", 5 SGND (power) "Small-Signal Ground. This pin serves as the ground connection for most internal circuits.", 6 VIN (power) "Small-Signal Power Supply. This pin powers the entire chip except for the gate drivers. Externally filtering this pin with a lowpass RC network (e.g., R = 10ohm, C = 1uF) is suggested to minimize noise pickup, especially in (See Datasheet)", 10 PGOOD (oc) "Power-Good Output Voltage Monitor Open-Drain Logic Output. This pin is pulled to ground when the voltage on either feedback pin (VFB1,VFB2) is not within +/-13.3% of its nominal set point.", 14 PGND (power) "Power Ground. These pins serve as the ground connection for the gate drivers and the negative input to the reverse current comparators. The Exposed Pad must be soldered to PCB ground.", 16 NC "No Connection.", 19 PGND (power) "Power Ground. These pins serve as the ground connection for the gate drivers and the negative input to the reverse current comparators. The Exposed Pad must be soldered to PCB ground.", 21 SYNC/FCB (in) "This pin performs two functions: 1) external clock synchronization input for phase-locked loop, and 2) pulse-skipping operation or forced continuous mode select. To synchronize with an external clock using the PLL, apply a (See Datasheet)", 23 PGND (power) "Power Ground. These pins serve as the ground connection for the gate drivers and the negative input to the reverse current comparators. The Exposed Pad must be soldered to PCB ground.", 28 NC "No Connection.", 29 EP (power) "Must be soldered to PCB ground."

## LTC3838EFE#PBF
designator U?
Dual, Fast, Accurate Step-Down DC/DC Controller with Differential Output Sensing, 38-pin SOP (FE-38-EPV-AA), -40 to 125 degC, Pb-Free; Manufacturer: Linear Technology; PartNumber: LTC3838EFE#PBF; Number of Outputs: 2; PackageReference: FE-38; PackageDescription: 38-Pin Plastic TSSOP, Body 9.7 x 4.4 mm, Pitch 0.5 mm; Supplier 1: Digi-Key; Supplier Part Number 1: LTC3838EFE#PBF-ND; RoHS: TRUE
footprint LT-FE-38-EPV-AA_N (SOP, 38-Leads, Body 9.8x4.5mm, Pitch 0.5mm, Thermal Pad 4.75x2.74mm, IPC Medium Density)
footprint LT-FE-38-EPV-AA_L (SOP, 38-Leads, Body 9.8x4.5mm, Pitch 0.5mm, Thermal Pad 4.75x2.74mm, IPC High Density)
footprint LT-FE-38-EPV-AA_M (SOP, 38-Leads, Body 9.8x4.5mm, Pitch 0.5mm, Thermal Pad 4.75x2.74mm, IPC Low Density)
part A pins: 13 VRNG1 (in) "Current Sense Voltage Range Inputs. When programmed between 0.6V and 2V, the voltage applied to VRNG1,2 is twenty times (20x) the maximum sense voltage between SENSE1,2+ and SENSE1,2-, i.e., for either channel, (VSENSE + - (See Datasheet)", 14 ITH1 "Current Control Threshold. This pin is the output of the error amplifier and the switching regulator’s compensation point. The current comparator threshold increases with this control voltage. The voltage ranges from 0V t(See Datasheet)", 15 TRACK/SS1 (in) "External Tracking and Soft-Start Input. The LTC3838 regulates the feedback voltages (VOUTSENSE1 + - VOUTSENSE1 -) and VFB2 to the smaller of 0.6V or the voltage on the TRACK/SS1,2 pins respectively. An internal 1uA (See Datasheet)", 16 VOUTSENSE1+ (in) "Differential Output Sense Amplifier (+) Input of Channel 1. Connect this pin to a feedback resistor divider between the positive and negative output capacitor terminals of VOUT1. In nominal operation the LTC3838 will attempt (See Datasheet)", 17 VOUTSENSE1- (in) "Differential Output Sense Amplifier (-) Input of Channel 1. Connect this pin to the negative terminal of the output load capacitor of VOUT1.", 18 SENSE1+ (in) "Differential Current Sense Comparator (+) Inputs. The ITH pin voltage and controlled offsets between the SENSE+ and SENSE- pins set the current trip threshold. The comparator can be used for RSENSE sensing or inductor DCR (See Datasheet)", 19 SENSE1- (in) "Differential Current Sense Comparator (-) Input. The comparator can be used for RSENSE sensing or inductor DCR sensing. For RSENSE sensing, Kelvin (4-wire) connect the SENSE- pin to the (-) terminal of RSENSE. For DCR (See Datasheet)", 20 DTR1 (in) "Detect Load- Release Transient for Overshoot Reduction. When load current suddenly drops, if voltage on this DTR pin drops below half of INTVCC, the bottom gate (BG) could turn off, allowing the inductor current to drop to (See Datasheet)", 21 RUN1 (in) "Run Control Inputs. An internal proportional-to-absolute-temperature (PTAT) pull-up current source (~1.2uA at 25degreesC) is constantly connected to this pin. Taking both RUN1 and RUN2 pins below a threshold voltage (~0.8V (See Datasheet)", 22 PGOOD1 (oc) "Power Good Indicator Outputs. This open-drain logic output is pulled to ground when the output voltage goes out of a +/-7.5% window around the regulation point, after a 50us powerbad- masking delay. Returning to the (See Datasheet)", 23 BOOST1 "Boosted Floating Supplies for Top MOSFET Drivers. The (+) terminal of the bootstrap capacitor, CB, connects to this pin. The BOOST pins swing by a VIN between a diode drop below DRVCC, or (DRVCC - VD) and (VIN + DRVCC - VD).", 24 TG1 (out) "Top Gate Driver Outputs. The TG pins drive the gates of the top N-channel power MOSFET with a voltage swing of VDRVCC between SW and BOOST.", 25 SW1 "Switch Node Connection to Inductors. Voltage swings are from a diode voltage below ground to VIN. The (-) terminal of the bootstrap capacitor, CB, connects to this node.", 26 BG1 (out) "Bottom Gate Driver Outputs. The BG pins drive the gates of the bottom N-channel power MOSFET between PGND and DRVCC."
part B pins: 1 DTR2 (in) "Detect Load- Release Transient for Overshoot Reduction. When load current suddenly drops, if voltage on this DTR pin drops below half of INTVCC, the bottom gate (BG) could turn off, allowing the inductor current to drop to (See Datasheet)", 2 SENSE2- (in) "Differential Current Sense Comparator (-) Input. The comparator can be used for RSENSE sensing or inductor DCR sensing. For RSENSE sensing, Kelvin (4-wire) connect the SENSE- pin to the (-) terminal of RSENSE. For DCR (See Datasheet)", 3 SENSE2+ (in) "Differential Current Sense Comparator (+) Inputs. The ITH pin voltage and controlled offsets between the SENSE+ and SENSE- pins set the current trip threshold. The comparator can be used for RSENSE sensing or inductor DCR (See Datasheet)", 4 VFB2 (in) "Error Amplifier Feedback Input for Channel 2. This pin connects the error amplifier to an external feedback resistor divider from VOUT2. In nominal operation the LTC3838 will attempt to regulate the VOUT2 to 0.6V divided by (See Datasheet)", 5 TRACK/SS2 (in) "External Tracking and Soft-Start Input. The LTC3838 regulates the feedback voltages (VOUTSENSE1 + - VOUTSENSE1 -) and VFB2 to the smaller of 0.6V or the voltage on the TRACK/SS1,2 pins respectively. An internal 1uA (See Datasheet)", 6 ITH2 "Current Control Threshold. This pin is the output of the error amplifier and the switching regulator’s compensation point. The current comparator threshold increases with this control voltage. The voltage ranges from 0V t(See Datasheet)", 7 VRNG2 (in) "Current Sense Voltage Range Inputs. When programmed between 0.6V and 2V, the voltage applied to VRNG1,2 is twenty times (20x) the maximum sense voltage between SENSE1,2+ and SENSE1,2-, i.e., for either channel, (VSENSE + - (See Datasheet)", 33 BG2 (out) "Bottom Gate Driver Outputs. The BG pins drive the gates of the bottom N-channel power MOSFET between PGND and DRVCC.", 34 SW2 "Switch Node Connection to Inductors. Voltage swings are from a diode voltage below ground to VIN. The (-) terminal of the bootstrap capacitor, CB, connects to this node.", 35 TG2 (out) "Top Gate Driver Outputs. The TG pins drive the gates of the top N-channel power MOSFET with a voltage swing of VDRVCC between SW and BOOST.", 36 BOOST2 "Boosted Floating Supplies for Top MOSFET Drivers. The (+) terminal of the bootstrap capacitor, CB, connects to this pin. The BOOST pins swing by a VIN between a diode drop below DRVCC, or (DRVCC - VD) and (VIN + DRVCC - VD).", 37 PGOOD2 (oc) "Power Good Indicator Outputs. This open-drain logic output is pulled to ground when the output voltage goes out of a +/-7.5% window around the regulation point, after a 50us powerbad- masking delay. Returning to the (See Datasheet)", 38 RUN2 (in) "Run Control Inputs. An internal proportional-to-absolute-temperature (PTAT) pull-up current source (~1.2uA at 25degreesC) is constantly connected to this pin. Taking both RUN1 and RUN2 pins below a threshold voltage (~0.8V (See Datasheet)"
part C pins: 8 PHASMD (in) "Phase Selector Input. This pin determines the relative phases of channels and the CLKOUT signal. With zero phase being defined as the rising edge of TG1: Pulling this pin to SGND locks TG2 to 180degrees, and CLKOUT to (See Datasheet)", 9 MODE/PLLIN (in) "Operation Mode Selection or External Clock Synchronization Input. When this pin is tied to INTVCC, forced continuous mode operation is selected. Tying this pin to SGND allows discontinuous mode operation. When an external (See Datasheet)", 10 CLKOUT (out) "Clock Output of Internal Clock Generator. Its output level swings between INTVCC and SGND. If clock input is present at the MODE/PLLIN pin, it will be synchronized to the input clock, with phase set by the PHASMD pin. If no (See Datasheet)", 11 SGND (power) "Signal Ground. All small-signal analog and compensation components should be connected to this ground. Connect SGND to the exposed pad and PGND pin using a single PCB trace.", 12 RT "Clock Generator Frequency Programming Pin. Connect an external resistor from RT to SGND to program the switching frequency between 200kHz and 2MHz. An external clock applied to MODE/PLLIN should be within +/-30% of this (See Datasheet)", 27 DRVCC1 (power) "Supplies of Bottom Gate Drivers. DRVCC1 is also the output of an internal 5.3V regulator. DRVCC2 is also the output of the EXTVCC switch. Normally the two DRVCC pins are shorted together on the PCB, and decoupled to PGND (See Datasheet)", 28 VIN (power) "Input Voltage Supply. The supply voltage can range from 4.5V to 38V. For increased noise immunity decouple this pin to SGND with an RC filter. Voltage at this pin is also used to adjust top gate on-time, therefore it is (See Datasheet)", 29 PGND (power) "Power Ground. Connect this pin as close as practical to the source of the bottom N-channel power MOSFET, the (-) terminal of CDRVCC and the (-) terminal of CIN. Connect the exposed pad and PGND pin to SGND pin using a single (See Datasheet)", 30 INTVCC (power) "Supply Input for Internal Circuitry (Not Including Gate Drivers). Normally powered from the DRVCC pins through a decoupling RC filter to SGND (typically 2ohm and 1uF).", 31 EXTVCC (power) "External Power Input. When EXTVCC exceeds the switchover voltage (typically 4.6V), an internal switch connects this pin to DRVCC2 and shuts down the internal regulator so that INTVCC and gate drivers draw power from EXTVCC. (See Datasheet)", 32 DRVCC2 (power) "Supplies of Bottom Gate Drivers. DRVCC1 is also the output of an internal 5.3V regulator. DRVCC2 is also the output of the EXTVCC switch. Normally the two DRVCC pins are shorted together on the PCB, and decoupled to PGND (See Datasheet)", 39 EP (power) "Power Ground. Connect this pin as close as practical to the source of the bottom N-channel power MOSFET, the (-) terminal of CDRVCC and the (-) terminal of CIN. Connect the exposed pad and PGND pin to SGND pin using a single (See Datasheet)"